# EAGLE library part VME_BP_J2 (library Atari)
VME Back Plane J2
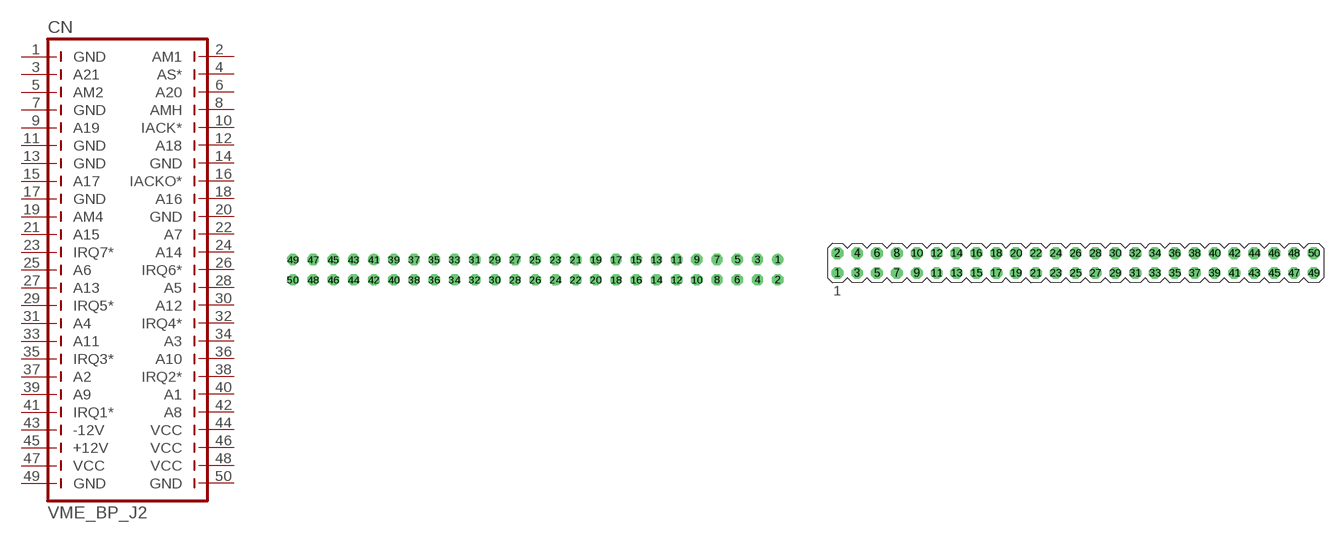
[diagram p4: symbol with the pads of HE14_FEMALE_50; footprints HE14_FEMALE_50, HE13_MALE_50]

Designator prefix CN

## VME_BP_J2FEMALE  [HE14_FEMALE_50]
1  GND  pas
2  AM1  pas
3  A21  pas
4  AS*  pas
5  AM2  pas
6  A20  pas
7  GND  pas
8  AMH  pas
9  A19  pas
10  IACK*  pas
11  GND  pas
12  A18  pas
13  GND  pas
14  GND  pas
15  A17  pas
16  IACKO*  pas
17  GND  pas
18  A16  pas
19  AM4  pas
20  GND  pas
21  A15  pas
22  A7  pas
23  IRQ7*  pas
24  A14  pas
25  A6  pas
26  IRQ6*  pas
27  A13  pas
28  A5  pas
29  IRQ5*  pas
30  A12  pas
31  A4  pas
32  IRQ4*  pas
33  A11  pas
34  A3  pas
35  IRQ3*  pas
36  A10  pas
37  A2  pas
38  IRQ2*  pas
39  A9  pas
40  A1  pas
41  IRQ1*  pas
42  A8  pas
43  -12V  pas
44  VCC  pas
45  +12V  pas
46  VCC  pas
47  VCC  pas
48  VCC  pas
49  GND  pas
50  GND  pas

## VME_BP_J2MALE  [HE13_MALE_50]
Pads as for HE14_FEMALE_50

## Footprint HE14_FEMALE_50 (pad centres in mm)
HE14 Female 2x25 pins
drill 0.914: 1 30.48,1.27; 41 -20.32,1.27
drill 0.914 octagon: 2 30.48,-1.27; 3 27.94,1.27; 4 27.94,-1.27; 5 25.4,1.27; 6 25.4,-1.27; 7 22.86,1.27; 8 22.86,-1.27; 9 20.32,1.27; 10 20.32,-1.27; 11 17.78,1.27; 12 17.78,-1.27; 13 15.24,1.27; 14 15.24,-1.27; 15 12.7,1.27; 16 12.7,-1.27; 17 10.16,1.27; 18 10.16,-1.27; 19 7.62,1.27; 20 7.62,-1.27; 21 5.08,1.27; 22 5.08,-1.27; 23 2.54,1.27; 24 2.54,-1.27; 25 0,1.27; 26 0,-1.27; 27 -2.54,1.27; 28 -2.54,-1.27; 29 -5.08,1.27; 30 -5.08,-1.27; 31 -7.62,1.27; 32 -7.62,-1.27; 33 -10.16,1.27; 34 -10.16,-1.27; 35 -12.7,1.27; 36 -12.7,-1.27; 37 -15.24,1.27; 38 -15.24,-1.27; 39 -17.78,1.27; 40 -17.78,-1.27; 42 -20.32,-1.27; 43 -22.86,1.27; 44 -22.86,-1.27; 45 -25.4,1.27; 46 -25.4,-1.27; 47 -27.94,1.27; 48 -27.94,-1.27; 49 -30.48,1.27; 50 -30.48,-1.27

## Footprint HE13_MALE_50 (pad centres in mm)
HE13 Male 2 x 25 pins
drill 1.016 octagon: 1 -29.21,-1.27; 2 -29.21,1.27; 3 -26.67,-1.27; 4 -26.67,1.27; 5 -24.13,-1.27; 6 -24.13,1.27; 7 -21.59,-1.27; 8 -21.59,1.27; 9 -19.05,-1.27; 10 -19.05,1.27; 11 -16.51,-1.27; 12 -16.51,1.27; 13 -13.97,-1.27; 14 -13.97,1.27; 15 -11.43,-1.27; 16 -11.43,1.27; 17 -8.89,-1.27; 18 -8.89,1.27; 19 -6.35,-1.27; 20 -6.35,1.27; 21 -3.81,-1.27; 22 -3.81,1.27; 23 -1.27,-1.27; 24 -1.27,1.27; 25 1.27,-1.27; 26 1.27,1.27; 27 3.81,-1.27; 28 3.81,1.27; 29 6.35,-1.27; 30 6.35,1.27; 31 8.89,-1.27; 32 8.89,1.27; 33 11.43,-1.27; 34 11.43,1.27; 35 13.97,-1.27; 36 13.97,1.27; 37 16.51,-1.27; 38 16.51,1.27; 39 19.05,-1.27; 40 19.05,1.27; 41 21.59,-1.27; 42 21.59,1.27; 43 24.13,-1.27; 44 24.13,1.27; 45 26.67,-1.27; 46 26.67,1.27; 47 29.21,-1.27; 48 29.21,1.27; 49 31.75,-1.27; 50 31.75,1.27